# EAGLE library part RFM12_SMD (library smd)
RFM12 is a low costing ISM band transceiver module implemented with unique PLL. It works signal ranges from 315/433/868/915MHZ bands, comply with FCC, ETSI regulation. The SPI interface is used to communicate with microcontroller for parameter setting.
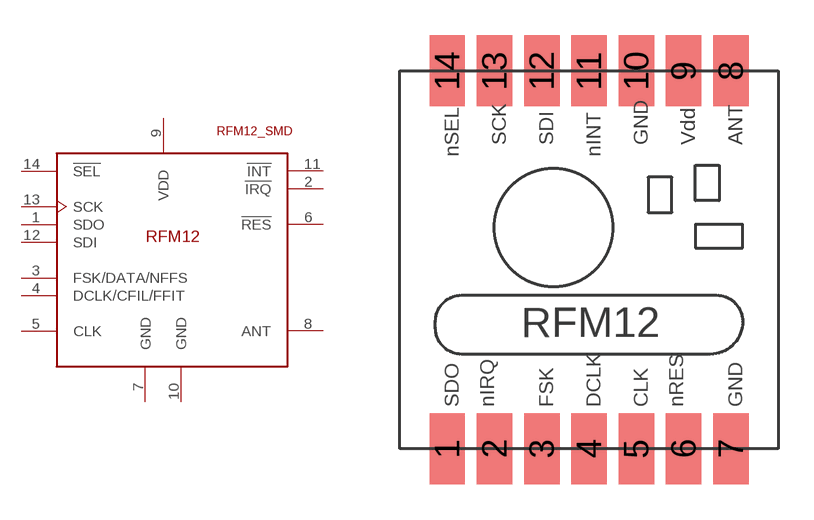
[diagram p1: symbol with the pads of RFM12; footprint RFM12]

Designator prefix -

## RFM12_SMDSMD  [RFM12]
1  SDO  out
2  !IRQ  out
3  FSK/DATA/NFFS
4  DCLK/CFIL/FFIT
5  CLK  out
6  !RES
7  GND  pas
8  ANT
9  VDD  sup
10  GND  pas
11  !INT
12  SDI  in
13  SCK  in
14  !SEL  in

## Footprint RFM12 (pad centres in mm)
smd 1.5 x 3: 1 -5,-10; 2 -3,-10; 3 -1,-10; 4 1,-10; 5 3,-10; 6 5,-10; 7 7,-10; 8 7,6; 9 5,6; 10 3,6; 11 1,6; 12 -1,6; 13 -3,6; 14 -5,6